# EAGLE library part MAX4734 (library _Bachelor-IQModulator)
Multiplexer -3dB @ 90MHz Vcc 3.3V
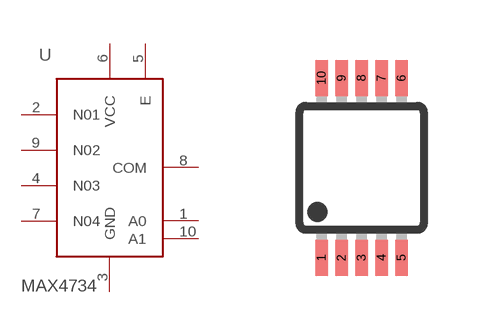
[diagram p3: symbol with the pads of UMAX; footprint UMAX]

Designator prefix -

## MAX4734  [UMAX]
1  A0
2  N01
3  GND
4  N03
5  E
6  VCC
7  N04
8  COM
9  N02
10  A1

## Footprint UMAX (pad centres in mm)
smd 0.32 x 0.9: 1 -1,-2.25; 2 -0.5,-2.25; 3 0,-2.25; 4 0.5,-2.25; 5 1,-2.25; 6 1,2.25; 7 0.5,2.25; 8 0,2.25; 9 -0.5,2.25; 10 -1,2.25